# EAGLE library part USB_ (library con-misc)
4-Pin USB Connector
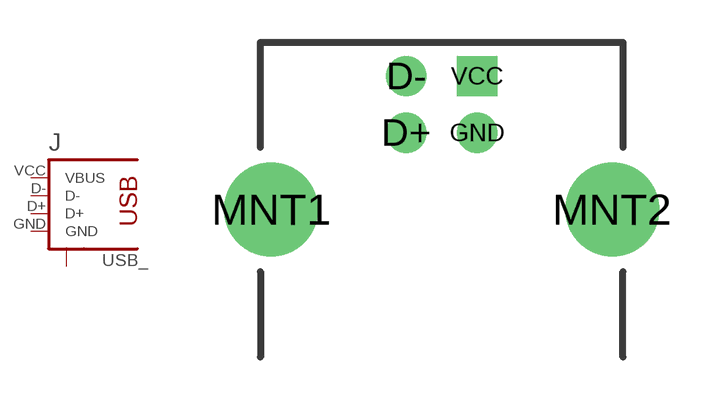
[diagram p0: symbol with the pads of USB_B_RA; footprint USB_B_RA]

Designator prefix J

## USB_B_RA  [USB_B_RA]
D+  D+
D-  D-
GND  GND  pwr
MNT1  S1  pas
MNT2  S2  pas
VCC  VBUS  pwr

## Footprint USB_B_RA (pad centres in mm)
drill 0.914: D+ -1.25,2.71; D- -1.25,4.71; GND 1.25,2.71
drill 2.3: MNT1 -6.02,0; MNT2 6.02,0
drill 0.914 square: VCC 1.25,4.71